# Altium footprint library magcontrol.PCBLIB: 54 footprints (part 2 of 4)
Each footprint in its own frame and in the unit in brackets; x right, y up, seen from the top. Pads: shape width x height; smd on the part's side, far side on the other; paste and mask are expansions set on the pad; w line width, h text height; cw(c..) or ccw(c..) is an arc to the next point about the centre after c.
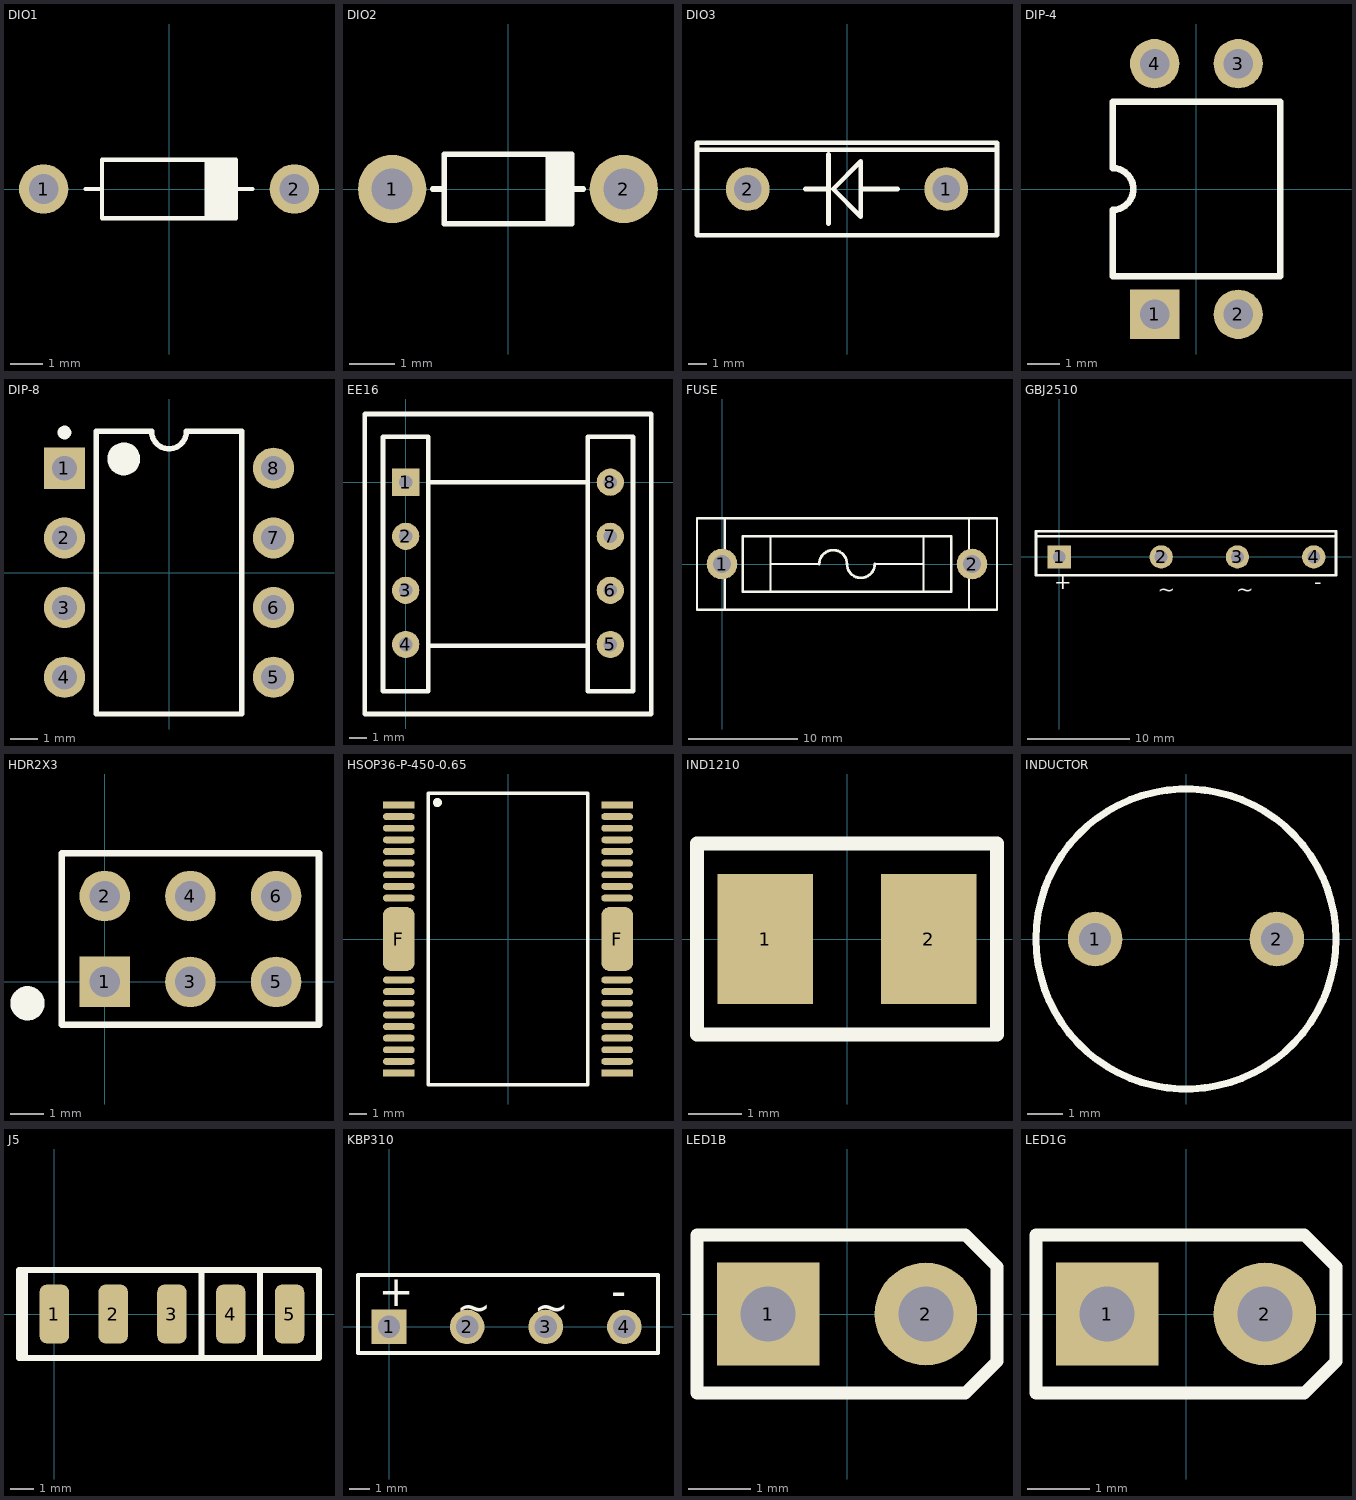
[diagram p1: the footprints below, top view; thin cyan lines are the x and y axes]

## DIO1 [mm]
height 1.9
pads (2):
  round 1.5 hole 0.9: 1(-3.81,0) 2(3.81,0)
Top Overlay:
  lines w0.127: -2.54,0 -2.032,0 ; 1.143,-0.889 1.143,0.889 ; 1.27,-0.889 1.27,0.889 ; 1.397,-0.889 1.397,0.889 ; 1.524,-0.889 1.524,0.889 ; 1.651,-0.889 1.651,0.889 ; 1.778,-0.889 1.778,0.889 ; 1.905,-0.889 1.905,0.889 ; 2.032,0 2.54,0 ; -2.032,-0.889 2.032,-0.889 2.032,0.889 -2.032,0.889 -2.032,-0.889
3D body: height 3.06, standoff -1.27, extent -4.216,-1.334 4.191,1.333

## DIO2 [mm]
height 1.9
pads (2):
  round 1.5 hole 0.9: 1(-2.54,0) 2(2.54,0)
Top Overlay:
  lines w0.127: -1.651,0 -1.397,0 ; 0.889,-0.762 0.889,0.762 ; 1.016,-0.762 1.016,0.762 ; 1.143,-0.762 1.143,0.762 ; 1.27,-0.762 1.27,0.762 ; 1.397,0 1.651,0 ; -1.397,-0.762 -1.397,0.762 1.397,0.762 1.397,-0.762 -1.397,-0.762
3D body: height 1.81, standoff -1.02, extent -2.743,-0.838 2.769,0.812

## DIO3 [mil]
height 200
pads (2):
  round 95 hole 60: 1(215,0) 2(-215,0)
Top Overlay:
  lines w10: -325,85 325,85 ; -90,0 -40,0 ; -40,-75 -40,75 ; 30,0 110,0 ; -325,-100 -325,100 325,100 325,-100 -325,-100 ; -30,0 30,-60 30,60 -30,0
3D body: height 1066.54, standoff -366.54, extent -312,-100 313.99,109.06

## DIP-4 [mm] "DIP; 4 Leads; Row Spacing 7.62 mm; Pitch 2.54 mm"
height 5.6
pads (4):
  rect 1.5x1.5 hole 0.9: 1(-1.27,-3.81)
  round 1.5 hole 0.9: 2(1.27,-3.81) 3(1.27,3.81) 4(-1.27,3.81)
Top Overlay:
  lines w0.2: -2.55,-2.65 -2.55,-0.635 ccw(c-2.55,0) -2.55,0.635 -2.55,2.65 2.55,2.65 2.55,-2.65 -2.55,-2.65
3D body: height 5.58, standoff -2.01, extent -2.746,-3.937 2.794,4.063

## DIP-8 [mm] "DIP; 8 Leads; Row Spacing 7.62 mm; Pitch 2.54 mm"
height 5.08
pads (8):
  rect 1.5x1.5 hole 0.9: 1(-3.81,3.81)
  round 1.5 hole 0.9: 2(-3.81,1.27) 3(-3.81,-1.27) 4(-3.81,-3.81) 5(3.81,-3.81) 6(3.81,-1.27) 7(3.81,1.27) 8(3.81,3.81)
Top Overlay:
  circle w0.6: c-1.65,4.15 r0.3
  circle w0.25: c-3.81,5.11 r0.125
  lines w0.2: -2.65,-5.15 2.65,-5.15 2.65,5.15 0.635,5.15 cw(c0,5.15) -0.635,5.15 -2.65,5.15 -2.65,-5.15
3D body: height 5.08, standoff -3.5, extent -3.935,-5.333 3.935,5.587

## EE16 [mil]
height 500
pads (8):
  rect 60x60 hole 30: 1(0,0)
  round 60 hole 30: 2(0,-119) 3(0,-238) 4(0,-357) 5(450,-357) 6(450,-238) 7(450,-119) 8(450,0)
Top Overlay:
  lines w10: 50,-360 400,-360 ; 50,0 400,0 ; -90,-510 -90,150 540,150 540,-510 -90,-510 ; -50,-460 -50,100 50,100 50,-460 -50,-460 ; 400,-460 500,-460 500,100 400,100 400,-460
3D body: height 706.69, standoff -122.05, extent -87.99,-526.85 537.99,170

## FUSE [mil]
height 650
pads (2):
  round 110 hole 65: 1(0,0) 2(900,0)
Top Overlay:
  lines w8: 9.67,-165 9.67,165 ; 175,-100 175,100 ; 175,0 350,0 ; 550,0 725,0 ; 725,-100 725,100 ; 889.67,-165 889.67,165 ; -90,-165 -90,165 990,165 990,-165 -90,-165 ; 75,-100 75,100 825,100 825,-100 75,-100
  lines w10: 350,0 cw(c400,0) 450,0 ccw(c500,0) 550,0
3D body: height 546.77, standoff -195.2, extent -5.9,-180 905.91,174.33
3D body: height 575, standoff 250, extent -100,-174.98 1000,174.98

## GBJ2510 [mil] "SIP; 4 Leads; Body 15 x 17.5 x 6.8 mm (typ); Pitch 3.8 mm"
height 900
pads (4):
  rect 90x90 hole 50: 1(0,0)
  round 90 hole 50: 2(394,0) 3(689,0) 4(984,0)
Top Overlay:
  lines w10: -90,80 1070,80 ; -90,-70 -90,100 1070,100 1070,-70 -90,-70
  text "-" at 985,-125 h59.06
  text "+" at -20,-125 h59.06
  text "~" at 685,-154.52 h59.06
  text "~" at 380,-154.52 h59.06
3D body: height 190, standoff -10, extent 964.16,-16.92 1004,23
3D body: height 190, standoff -10, extent 670.16,-19.92 710,20
3D body: height 190, standoff -10, extent 374.08,-18.92 413.92,21
3D body: height 800, standoff 350, extent -90,-25 1070,105
3D body: height 350, standoff 200, extent -90,-75 1070,110
3D body: height 190, standoff -10, extent -19.84,-19.96 20,19.96

## HDR2X3 [mm] "Connector; Header; 3x2 Position"
height 5.08
pads (6):
  rect 1.5x1.5 hole 0.9: 1(0,0)
  round 1.5 hole 0.9: 2(0,2.54) 3(2.54,0) 4(2.54,2.54) 5(5.08,0) 6(5.08,2.54)
Top Overlay:
  circle w0.508: c-2.286,-0.635 r0.254
  lines w0.2: 1.482,-1.27 6.35,-1.27 ; 6.35,-1.27 -1.27,-1.27 -1.27,3.81 6.35,3.81 6.35,-1.27
3D body: height 8.79, standoff -2.75, extent -1.27,1.27 6.35,3.81
3D body: height 8.79, standoff -2.75, extent -1.27,-1.27 6.35,1.27

## HSOP36-P-450-0.65 [mil]
height 50
pads (38):
  rect 70x15 smd: 1(-240,294.72) 18(-240,-294.72) 19(240,-294.72) 36(240,294.72)
  oval 70x15 smd: 2(-240,269.13) 3(-240,243.54) 4(-240,217.95) 5(-240,192.36) 6(-240,166.77) 7(-240,141.18) 8(-240,115.59) 9(-240,90) 10(-240,-90) 11(-240,-115.59) 12(-240,-141.18) 13(-240,-166.77) 14(-240,-192.36) 15(-240,-217.95) 16(-240,-243.54) 17(-240,-269.13) 20(240,-269.13) 21(240,-243.54) 22(240,-217.95) 23(240,-192.36) 24(240,-166.77) 25(240,-141.18) 26(240,-115.59) 27(240,-90) 28(240,90) 29(240,115.59) 30(240,141.18) 31(240,166.77) 32(240,192.36) 33(240,217.95) 34(240,243.54) 35(240,269.13)
  rrect50% 70x140 smd: F(-240,0) F(240,0)
Top Overlay:
  circle w10: c-155,300 r5
  lines w7.87: -175,-320 175,-320 175,320 -175,320 -175,-320
3D body: height 100, standoff 5, extent -174.98,-324.98 174.98,324.98
3D body: height 102, standoff 100, extent -150.27,264.73 -119.73,295.27

## IND1210 [mil]
pads (2):
  rect 70x95 smd: 1(-60,0) 2(60,0)
Top Overlay:
  lines w10: -110,-70 110,-70 110,70 -110,70 -110,-70
3D body: height 94.49, standoff 0, extent -70.46,-53.14 70.47,53.16

## INDUCTOR [mil]
pads (2):
  round 60 hole 35: 1(-100,0) 2(100,0)
Top Overlay:
  circle w7.87: c0,0 r165
3D body: height 400, standoff -170.87, extent -153.54,-155 153.54,152.08

## J5 [mil]
pads (5):
  rrect50% 50x100 smd: 1(0,0) 2(100,0) 3(200,0) 4(300,0) 5(400,0)
Top Overlay:
  lines w10: 250,-75 250,75 ; 350,-75 350,75 ; -50,-75 450,-75 450,75 -50,75 ; -50,-75 -50,75 ; -50,-75 -60,-75 -60,75 -50,75

## KBP310 [mm]
height 11.43
pads (4):
  rect 1.7x1.7 hole 1.1: 1(0,0)
  round 1.7 hole 1.1: 2(3.835,0) 3(7.696,0) 4(11.557,0)
Top Overlay:
  lines w0.2: -1.524,-1.27 -1.524,2.54 13.208,2.54 13.208,-1.27 -1.524,-1.27
  text "+" at -0.508,1.016 h1.5
  text "-" at 10.922,1.016 h1.5
  text "~" at 7.112,0.254 h1.5
  text "~" at 3.302,0.254 h1.5
3D body: height 13.54, standoff -1.46, extent -2.031,-1.619 13.969,2.381

## LED1B [mm]
height 6
pads (2):
  rect 1.65x1.65 hole 0.889: 1(-1.27,0)
  round 1.65 hole 0.889: 2(1.27,0)
Top Overlay:
  lines w0.203: -2.413,-1.27 1.905,-1.27 2.413,-0.762 2.413,0.762 1.905,1.27 -2.413,1.27 -2.413,-1.27
3D body: height 6.72, standoff -0.48, extent -2,-1.998 1.52,1.999

## LED1G [mm]
height 6
pads (2):
  rect 1.65x1.65 hole 0.889: 1(-1.27,0)
  round 1.65 hole 0.889: 2(1.27,0)
Top Overlay:
  lines w0.203: -2.413,-1.27 1.905,-1.27 2.413,-0.762 2.413,0.762 1.905,1.27 -2.413,1.27 -2.413,-1.27
3D body: height 6.72, standoff -0.48, extent -2,-1.998 1.52,1.998